# Altium schematic symbol library BatteryHolder3AA.SchLib: 1 symbol
Pins are listed as number, name and electrical type; pins without a type are passive.

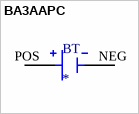
[diagram p0: symbol BA3AAPC]

## BA3AAPC
designator BT
Battery Holder _Open_ AA 3 Cell PC Pin; MP: BA3AAPC; MF: MPD _Memory Protection Devices_; Package: None; Value: *; Digi-Key_Purchase_URL: https://www.digikey.com/product-detail/en/mpd-memory-protection-devices/BA3AAPC/BA3AAPC-ND/2439223?utm_source=snapeda&utm_medium=aggregator&utm_campaign=symbol; Digi-Key_Part_Number: BA3AAPC-ND; SnapEDA_Link: https://www.snapeda.com/parts/BA3AAPC/MPD%20%28Memory%20Protection%20Devices%29/view-part/3213839/?ref=snap
footprint BAT_BA3AAPC
pins: NEG, POS